# EAGLE library part ADC7109 (library chuong)
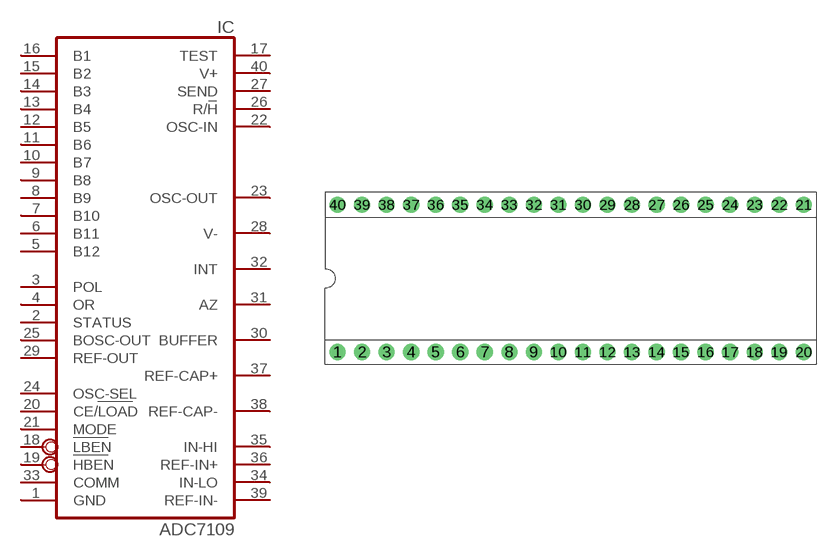
[diagram p27: symbol with the pads of DIL-40; footprint DIL-40]

Designator prefix IC

## ADC7109  [DIL-40]
1  GND  pwr
2  STATUS  out
3  POL  out
4  OR  out
5  B12  hiz
6  B11  hiz
7  B10  hiz
8  B9  hiz
9  B8  hiz
10  B7  hiz
11  B6  hiz
12  B5  hiz
13  B4  hiz
14  B3  hiz
15  B2  hiz
16  B1  hiz
17  TEST  in
18  LBEN
19  HBEN
20  CE/LOAD
21  MODE  in
22  OSC-IN  in
23  OSC-OUT  out
24  OSC-SEL  in
25  BOSC-OUT  out
26  R/H  in
27  SEND  in
28  V-  pwr
29  REF-OUT  in
30  BUFFER  out
31  AZ  pas
32  INT  out
33  COMM  pwr
34  IN-LO  in
35  IN-HI  in
36  REF-IN+  in
37  REF-CAP+  pas
38  REF-CAP-  pas
39  REF-IN-  in
40  V+  pwr

## Footprint DIL-40 (pad centres in mm)
drill 0.61 pad 1.676 round: 1 -22.86,-7.62; 2 -20.32,-7.62; 3 -17.78,-7.62; 4 -15.24,-7.62; 5 -12.7,-7.62; 6 -10.16,-7.62; 7 -7.62,-7.62; 8 -5.08,-7.62; 9 -2.54,-7.62; 10 0,-7.62; 11 2.54,-7.62; 12 5.08,-7.62; 13 7.62,-7.62; 14 10.16,-7.62; 15 12.7,-7.62; 16 15.24,-7.62; 17 17.78,-7.62; 18 20.32,-7.62; 19 22.86,-7.62; 20 25.4,-7.62; 21 25.4,7.62; 22 22.86,7.62; 23 20.32,7.62; 24 17.78,7.62; 25 15.24,7.62; 26 12.7,7.62; 27 10.16,7.62; 28 7.62,7.62; 29 5.08,7.62; 30 2.54,7.62; 31 0,7.62; 32 -2.54,7.62; 33 -5.08,7.62; 34 -7.62,7.62; 35 -10.16,7.62; 36 -12.7,7.62; 37 -15.24,7.62; 38 -17.78,7.62; 39 -20.32,7.62; 40 -22.86,7.62